# Altium schematic symbol library GPS_Traking_V1_1.SCHLIB: 48 symbols
Pins are listed as number, name and electrical type; pins without a type are passive.

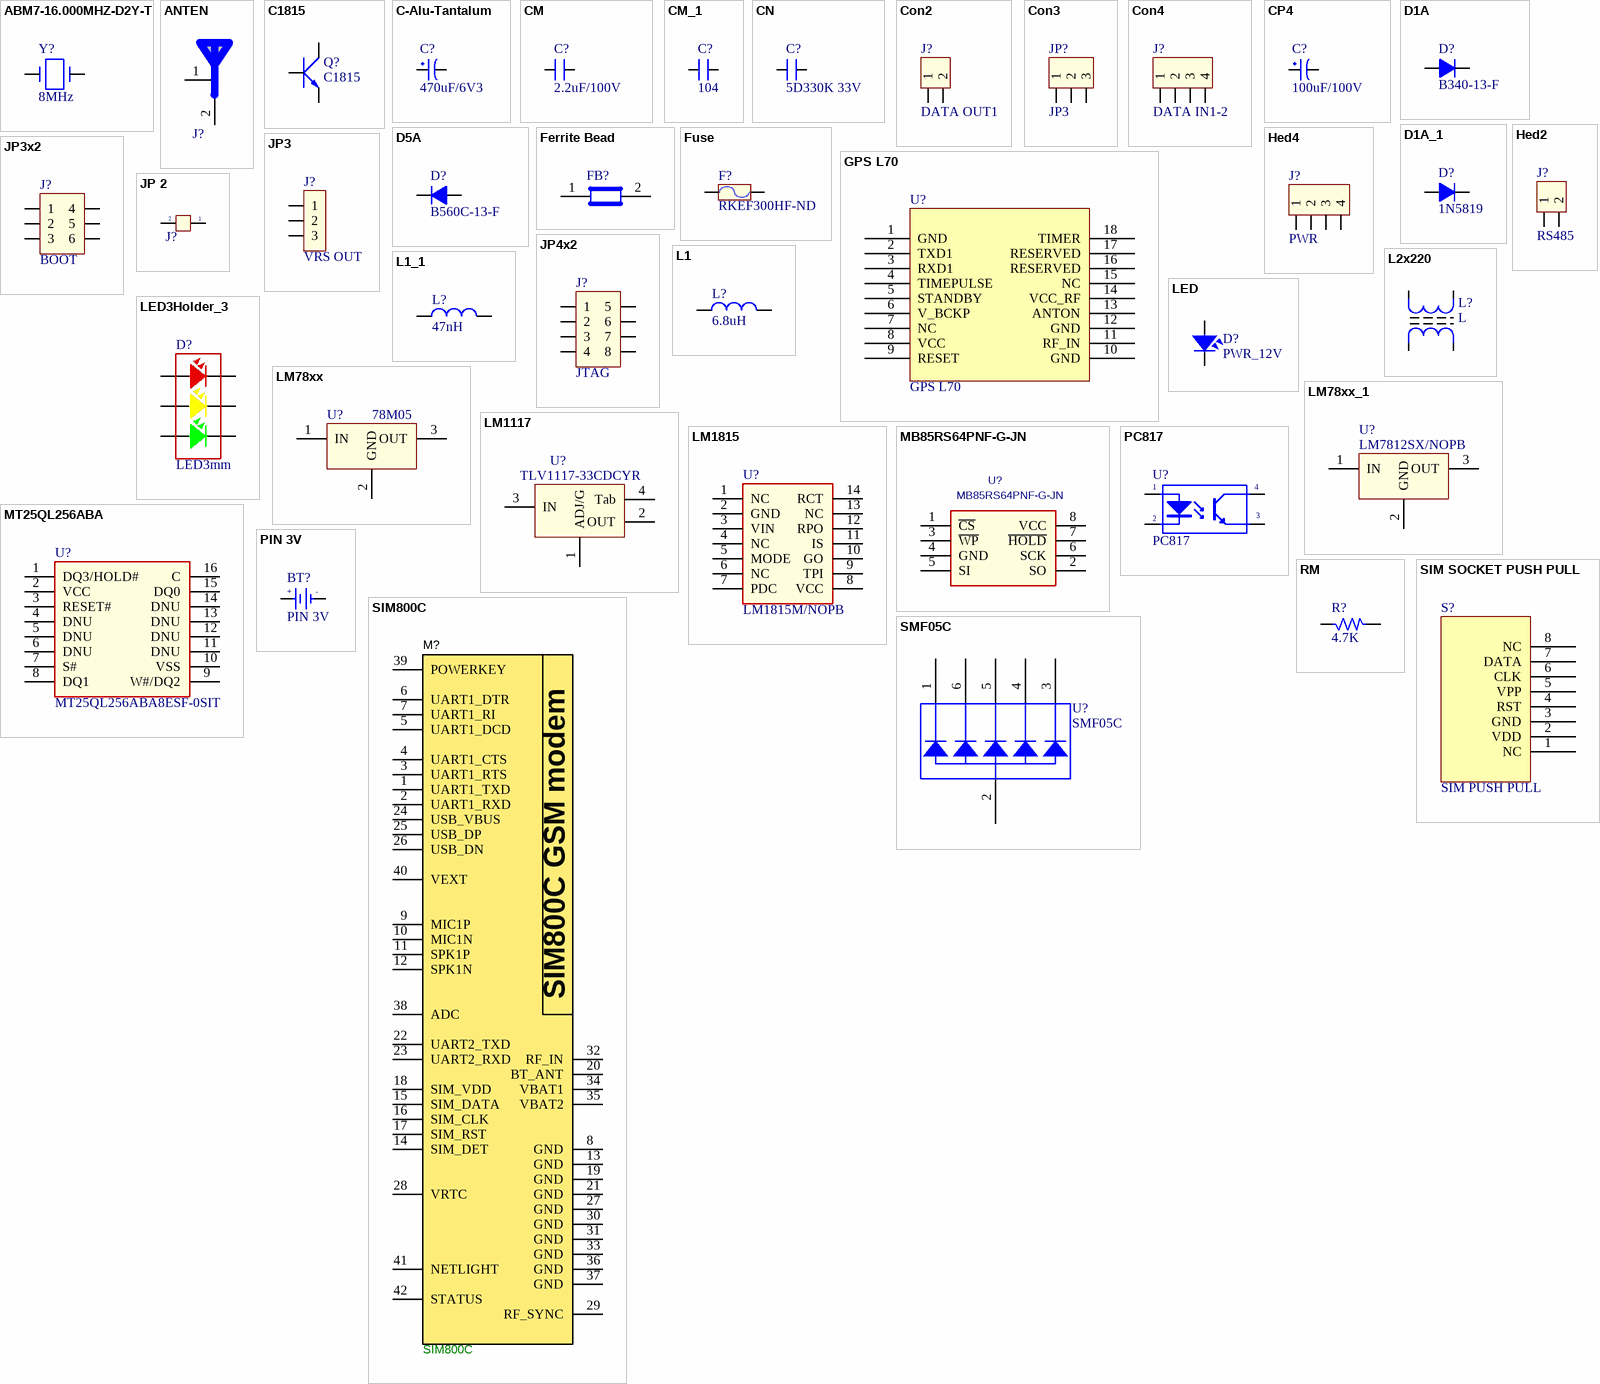
[diagram p0: symbols ABM7-16.000MHZ-D2Y-T to SMF05C]

## ABM7-16.000MHZ-D2Y-T
designator Y?, comment 8MHz
CRYSTAL 16MHZ 18PF SMD; Manufacturer: Abracon LLC; Manufacturer Part Number: ABM7-16.000MHZ-D2Y-T; Frequency Stability: ±30ppm; Frequency Tolerance: ±20ppm; ESR (Equivalent Series Resistance): 50 Ohm; Operating Mode: Fundamental; .Creator: MM; .Checked PCB: RF; Supplier 1: Digi-Key; RoHS: RoHS Compliant; Category: Crystals and Oscillators; Stock 1: 5861; Pricing 1: 1=0.96, 10=0.847, 50=0.791, 100=0.7, 500=0.6615 (USD); Packaging: Cut Tape (CT); Type: MHz Crystal; Frequency: 16MHz; Load Capacitance: 18pF; Operating Temperature: -40°C ~ 85°C; Ratings: -; Mounting Type: Surface Mount; Package / Case: 2-SMD; Size / Dimension: 0.236" L x 0.138" W (6.00mm x 3.50mm); Height: 0.055" (1.40mm); ComponentLink1URL: http://www.abracon.com/Resonators/abm7.pdf; ComponentLink1Description: http://www.abracon.com/Resonators/abm7.pdf; Supplier Part Number 1: 535-9840-1-ND; .Checked SCH: RF
footprint ABM7_v1_1_BIG
pins: 1, 2

## ANTEN
designator J?, comment GPS  (value not drawn)
footprint Antenna-IPEX (Connector; RF Coaxial, MCB SM; 4 Position; Vertical, Body 3.1x3.0mm (LxW))
footprint Antenna-MCX5.08-H5 (Connector; RF Coaxial, MCX, Thru-Hole; 5 Position; Right Angle)
footprint Antenna-MCX5.08-V5 (Connector; RF Coaxial, MCX, Thru-Hole; 5 Position; Vertical)
pins: 1 GND, 2 GND

## C1815
designator Q?
NPN 600mW, ECB; Value: C1815
footprint QTO-92 (TO-92)
footprint SOT23B (SOT 23B)
pins: 1 E, 2 C, 3 B

## C-Alu-Tantalum
designator C?, comment 470uF/6V3
Cap Aluminum; Value: 10uF/50V; Description 1: 10 => 220uF/6,3V/10V - 10uF => 100uF/16V; Description 2: 0,1uF => 33uF/50V - 10uF => 22uF/63V; Description 3: 0,47uF => 10uF/100V
footprint C_Alu_6.3x7.7 (Cap Aluminum 100uF_35V)
footprint C_Alu_8x10 (Cap Aluminum 330uF_16V)
footprint C_Alu_10x10 (Cap Aluminum 330uF/35V)
footprint C_7343_40 (Cap Tantulum)
pins: 1, 2
1 alternate drawing of the same symbol

## CM
designator C?, comment 2.2uF/100V
CAP CER 2.2UF 100V X7R 1210  445-4498-2-ND; Value: 103
footprint SM-1206 (Compoment SMD 120x60mil)
footprint SMD-2010 (Chip Capacitor, 2-Leads)
footprint SM-1210 (Chip Capacitor, 2-Leads, Body 3.20x2.50mm)
footprint C0805 (Compoment SMD 80x50mil)
footprint C2220
footprint C0603
footprint C0805 SMT (Compoment SMD 80x50mil)
footprint C0603 SMT
pins: 1, 2

## CM_1
designator C?, comment 104
Cap SMD; Value: 103
footprint SM-1206 (Compoment SMD 120x60mil)
footprint SMD-2010 (Chip Capacitor, 2-Leads)
footprint SM-1210 (Chip Capacitor, 2-Leads, Body 3.20x2.50mm)
footprint C0805 SMT
footprint C0603 SMT
pins: 1, 2

## CN
designator C?, comment 5D330K 33V
Value: 0,1uF/300V; Designed by: VanDungEvn
footprint CN (Tu loc 220)
footprint CN_TVE10621 (TVE10621)
footprint CN_105K630 (Tu keo)
footprint CN5 (CN5 500mil)
footprint CN6 (CN6 600mil)
footprint CN7 (CN7 700mil)
footprint CN4 (Cap np W 0.4)
footprint CN3 (Cap np W 0.3)
footprint CN2.5 (Tu pin to pin 250mil)
footprint CN2
footprint CN1.5
footprint CN1
pins: 1, 2

## Con2
designator J?, comment DATA OUT1
Connector 2; Value: Connector 2
footprint CON_2.54mm_2 (CON2)
pins: 1, 2

## Con3
designator JP?, comment JP3
Connector 3; Value: Connector 3
footprint CON_2.54mm_3 (CON 3)
pins: 1, 2, 3

## Con4
designator J?, comment DATA IN1-2
Connector 4; Value: Connector 4
footprint CON_2.54mm_4 (CON4)
pins: 1, 2, 3, 4

## CP4
designator C?, comment 100uF/100V
Cap 1000uF/16V - 220uF/50V; Description 5: 4,7uF>10uF/250V_3,3uF>10uF/400V - 2,2uF>4,7uF/450V; Description 1: 2200uF-3300uF/6,3V - 1000uF-2200uF/10V; Description 2: 1000uF/16V - 470uF => 1000uF/25V - 100uF/100V; Description 3: 330uF>470uF/35V_220uF>470uF/50V_10uF>22uF/250V; Description 4: 220uF => 330uF/63V - 10uF =>33uF/160 - 200V; Value: 1000uF/16V
footprint CP1.5/3.4 (Tu hoa 220->470uF,16V, 470uF/16V,25V)
pins: 1, 2

## D1A
designator D?, comment B340-13-F
DIODE SCHOTTKY 40V 3A SMC; Value: 1N4007
footprint D1A (Diode 1A, W 100mil, L 350mil)
footprint D2A (Diode 2A, W 150mil, L 450mil)
footprint DO-214AB SMA (Diode SS34, 1N4007-M7)
footprint DO_35 (Diode 1A, 7mm)
footprint DO-4148 SMD (1N4148 SMD)
pins: 1 A, 2 K

## D1A_1
designator D?, comment 1N5819
Diode 1A; Value: 1N4007
footprint D1A (Diode 1A, W 100mil, L 350mil)
footprint D2A (Diode 2A, W 150mil, L 450mil)
footprint DO-214AB SMA (Diode SS34, 1N4007-M7)
footprint DO_35 (Diode 1A, 7mm)
footprint DO-4148 SMD (1N4148 SMD)
footprint SOD123 (1N5819 SOD123)
pins: 1 A, 2 K

## D5A
designator D?, comment B560C-13-F
DIODE SCHOTTKY 60V 5A SMC; Value: 1N5408
footprint D5A (Diode 5A, W 200mil, L 550mil)
footprint D5AN (Diode 5A, W 200mil, L 250mil)
footprint DO-214AB SMC (Diode 5A, SS54)
pins: 1 A, 2 K

## Ferrite Bead
designator FB?, comment BLM21PG600SN1D  (value not drawn)
Ferrite Bead
footprint R0805
pins: 1, 2

## Fuse
designator F?, comment RKEF300HF-ND
PTC RESET FUSE 60V 3A RADIAL; Designed by: VanDungEvn; Value: Fuse
footprint Fuse (De Fuse)
footprint FUSE1 (De Fuse Box)
footprint FUSE2 (Fuse)
pins: 1, 2

## GPS L70
designator U?
footprint GPS L70
pins: 1 GND, 2 TXD1, 3 RXD1, 4 TIMEPULSE, 5 STANDBY, 6 V_BCKP, 7 NC, 8 VCC, 9 RESET, 10 GND, 11 RF_IN, 12 GND, 13 ANTON, 14 VCC_RF, 15 NC, 16 RESERVED, 17 RESERVED, 18 TIMER

## Hed2
designator J?, comment RS485
Header 2 (Green); Value: Header 2
footprint HED2 (Header 2, 2 pin, hight 300mil, Pin to Pin 200, Colour Green)
footprint HED2T (Header 2, 2 pin, hight 300mil, Pin to Pin 200, Colour Green)
footprint HED2B (Header 2, 2 pin, hight 300mil, Pin to Pin 150, Colour White)
footprint HED2A (Header 2: 300V-20A, 2 pin, hight 300mil, Pin to Pin 400, Colour Green)
footprint HED2_7.62
footprint HED2V_5.08
footprint Hed2V_3.96
footprint HED_5.08mm_2L (Header 2, 2 pin, hight 300mil, Pin to Pin 200, Colour Green)
footprint HED_3.81mm_2 (Header 2, 2 pin, Pin to Pin 150)
footprint HED_5.08mm_2T (Header 2, 2 pin, hight 300mil, Pin to Pin 200, Colour Green)
pins: 1, 2

## Hed4
designator J?, comment PWR
Header 4 (Green); Value: Header 4
footprint HED4 (Header 4, 4 pin, hight 300mil, Pin to Pin 200, Colour Green)
footprint HED4T (Header 4, 4 pin, hight 300mil, Pin to Pin 200, Colour Green)
footprint HED4B (Header 4, 4 pin, hight 300mil, Pin to Pin 150, Colour White)
footprint Hed4V_3.96
footprint HED_3.81mm_4 (Header 4, 4 pin, Pin to Pin 150)
pins: 1, 2, 3, 4

## JP3
designator J?, comment VRS OUT
Jumper 3; Value: J3
footprint JP3 (Jumper 3)
footprint JP3H
pins: 1, 2, 3

## JP3x2
designator J?, comment BOOT
Connector 3x2; Value: Connector 3x2
footprint JP3x2 (Connector 3x2)
pins: 1, 2, 3, 4, 5, 6

## JP4x2
designator J?, comment JTAG
Connector 4x2; Value: Connector 4x2
footprint JP4x2 (Connector 4x2)
pins: 1, 2, 3, 4, 5, 6, 7, 8

## JP 2
designator J?, comment watdog  (value not drawn)
Jumper 2; Value: JP 2
footprint JP2
footprint jp2h
pins: 1, 2

## L1
designator L?, comment 6.8uH
FIXED IND 6.2UH 5.7A 22.4 MOHM; Value: 150 mH
footprint L/0.4 (Inductor , 2 Pin, L 350mil, W 150 mil)
footprint L01 (Inductor)
footprint L01 SMD (Chip Inductor SMD Vishay)
footprint L01 SMD 12*12*6 (Chip Inductor, 12*12*6)
pins: 1, 2

## L1_1
designator L?, comment 47nH
Inductor; Value: 150 mH
footprint L/0.4 (Inductor , 2 Pin, L 350mil, W 150 mil)
footprint L01 (Inductor)
footprint C0805 (Compoment SMD 80x50mil)
pins: 1, 2

## L2x220
designator L?, comment L
Inductor; Value: Loc 220; Designed by: VanDungEvn
footprint L2x220
footprint L2 UF9.8 (Loc UF 9.8 10mH)
pins: 1, 2, 3, 4

## LED
designator D?, comment PWR_12V
LED Single colour Green and Red; Value: LED 3 ly Single Colour
footprint LED-V (LED 2 PIN, Rectang Only colour)
footprint LED-O (LED 2 PIN,  Ovan Only colour, pin to pin 110mil)
footprint Led_0603_Green
footprint Led_0603_RED
footprint Led_0603_Yellow
footprint Led_0805_GREEN
footprint Led_0805_YELLOW
footprint LED_5 GRe (LED 2 PIN, 5 ly , Only colour,pin to pin 100mil)
footprint LED_5 RED (LED 2 PIN, 5 ly , Only colour,pin to pin 100mil)
footprint LED_5 Yellow (LED 2 PIN, 5 ly , Only colour,pin to pin 100mil)
footprint LED_3 GREEN (LED 2 PIN, 3ly Only colour)
footprint LED_3 RED (LED 2 PIN, 3ly Only colour)
footprint LED_3 YELLOW (LED 2 PIN, 3ly Only colour)
footprint LED_5 RED Oval (LED 2 PIN, 5 ly , Only colour,pin to pin 100mil)
footprint LED_5 GREEN SMD (LED 2 PIN, 5mm, SMD)
footprint LED_5 RED SMD (LED 2 PIN, 5mm, SMD)
footprint LED_5 YELLOW SMD (LED 2 PIN, 5mm, SMD)
footprint LED_1W (1W Led power)
pins: 1, 2

## LED3Holder_3
designator D?, comment LED3mm
LED 3 holder RGB 3mm; Value: LED 3 ly Single Colour
footprint LED 3 holder 3mm
pins: 1, 2, 3, 4, 5, 6

## LM78xx
designator U?, comment 78M05
On ap +, from + 5 to + 24VDC; Value: LM7805
footprint QTO-220 (TO-220 - 1-2-3)
footprint QTO-220H3 (TO-220 1-2-3)
footprint QTO-220NH (TO-220 - 1-2-3)
footprint QTO-220N (TO-220 - 1-2-3)
footprint TO252-3L (D-PAK, 4-Leads, Body 6.1x6.5mm, Pitch 2.28mm, Lead Span 9.7mm, IPC High Density)
pins: 1 IN, 2 GND, 3 OUT

## LM78xx_1
designator U?, comment LM7812SX/NOPB
Value: LM7805
footprint QTO-220 (TO-220 - 1-2-3)
footprint QTO-220H3 (TO-220 1-2-3)
footprint QTO-220NH (TO-220 - 1-2-3)
footprint QTO-220N (TO-220 - 1-2-3)
footprint TO252-3L (D-PAK, 4-Leads, Body 6.1x6.5mm, Pitch 2.28mm, Lead Span 9.7mm, IPC High Density)
footprint TO-263-4 (LM7812, LM7805)
pins: 1 IN, 2 GND, 3 OUT

## LM1117
designator U?, comment TLV1117-33CDCYR
3v3; Value: LM317
footprint SOT223-4N (SOT223, 4-Leads, Body 6.5x3.5mm, Pitch 2.3mm, Lead Span 7mm, IPC Medium Density)
pins: 1 ADJ/G, 2 OUT, 3 IN, 4 Tab

## LM1815
designator U?, comment LM1815M/NOPB
IC AMP ADAPTIV VAR SENSOR
footprint SOIC-D14 (SOIC 14 (D))
pins: 1 NC, 2 GND, 3 VIN, 4 NC, 5 MODE, 6 NC, 7 PDC, 8 VCC, 9 TPI, 10 GO, 11 IS, 12 RPO, 13 NC, 14 RCT

## MB85RS64PNF-G-JN
designator U?
FRAM 64KBIT 20MHZ 8SOP; Manufacturer_Part_Number: MB85RS64PNF-G-JNE1; C: Copyright (C) 2015 Accelerated Designs. All rights reserved; Vendor: Fujitsu Semiconductor; Built_By: EMA_UL_Team; Value: MB85RS64PNF-G-JN
footprint FPT-8P-M02
footprint FPT-8P-M02-M
footprint FPT-8P-M02-L
footprint SO-8 208 (8-SOIC (0.209", 5.30mm Width))
pins: 1 ~{CS}, 2 SO, 3 ~{WP}, 4 GND, 5 SI, 6 SCK, 7 ~{HOLD}, 8 VCC

## MT25QL256ABA
designator U?, comment MT25QL256ABA8ESF-0SIT
FLASH 256MBIT 133MHZ 16SOIC
footprint 16-SOP2 (16-SOP2 300mils)
pins: 1 DQ3/HOLD#, 2 VCC, 3 RESET#, 4 DNU, 5 DNU, 6 DNU, 7 S#, 8 DQ1, 9 W#/DQ2, 10 VSS, 11 DNU, 12 DNU, 13 DNU, 14 DNU, 15 DQ0, 16 C

## PC817
designator U?
Single Opto; Value: PC817
footprint DIP4/W0.3 (4 PIN, W 300mil, Pin to pin 100mil)
pins: 1 A "Anode", 2 K "Cathode", 3 E "Emitter", 4 C "Collector"

## PIN 3V
designator BT?
Battery 3VDC; Value: PIN 3V
footprint PIN3V (Socket PIN 3V)
footprint CR1220 socket (Pin 3V CR1220)
footprint PIN3V_mini (Socket PIN 3V)
pins: 1 +3V, 2 GND
text: +; -

## RM
designator R?, comment 4.7K
Resistor SMD; Value: 1K
footprint R0603
footprint R0805
footprint R2512
footprint R1206 (Compoment SMD 120x60mil)
footprint R0603 -SMT
footprint R0805 SMT
footprint R0402
pins: 1, 2

## SIM800C
designator M?
footprint SIM800C
pins: 1 UART1_TXD, 2 UART1_RXD, 3 UART1_RTS, 4 UART1_CTS, 5 UART1_DCD, 6 UART1_DTR, 7 UART1_RI, 8 GND, 9 MIC1P, 10 MIC1N, 11 SPK1P, 12 SPK1N, 13 GND, 14 SIM_DET, 15 SIM_DATA, 16 SIM_CLK, 17 SIM_RST, 18 SIM_VDD, 19 GND, 20 BT_ANT, 21 GND, 22 UART2_TXD, 23 UART2_RXD, 24 USB_VBUS, 25 USB_DP, 26 USB_DN, 27 GND, 28 VRTC, 29 RF_SYNC, 30 GND, 31 GND, 32 RF_IN, 33 GND, 34 VBAT1, 35 VBAT2, 36 GND, 37 GND, 38 ADC, 39 POWERKEY, 40 VEXT, 41 NETLIGHT, 42 STATUS
text: SIM800C GSM modem

## SIM SOCKET PUSH PULL
designator S?, comment SIM PUSH PULL
footprint Sim Push Push
pins: 1 NC, 2 VDD, 3 GND, 4 RST, 5 VPP, 6 CLK, 7 DATA, 8 NC

## SMF05C
designator U?
ESD Protection
footprint SOT_363_6
pins: 1 K1, 2 A (power), 3 K2, 4 K3, 5 K4 (power), 6 K5

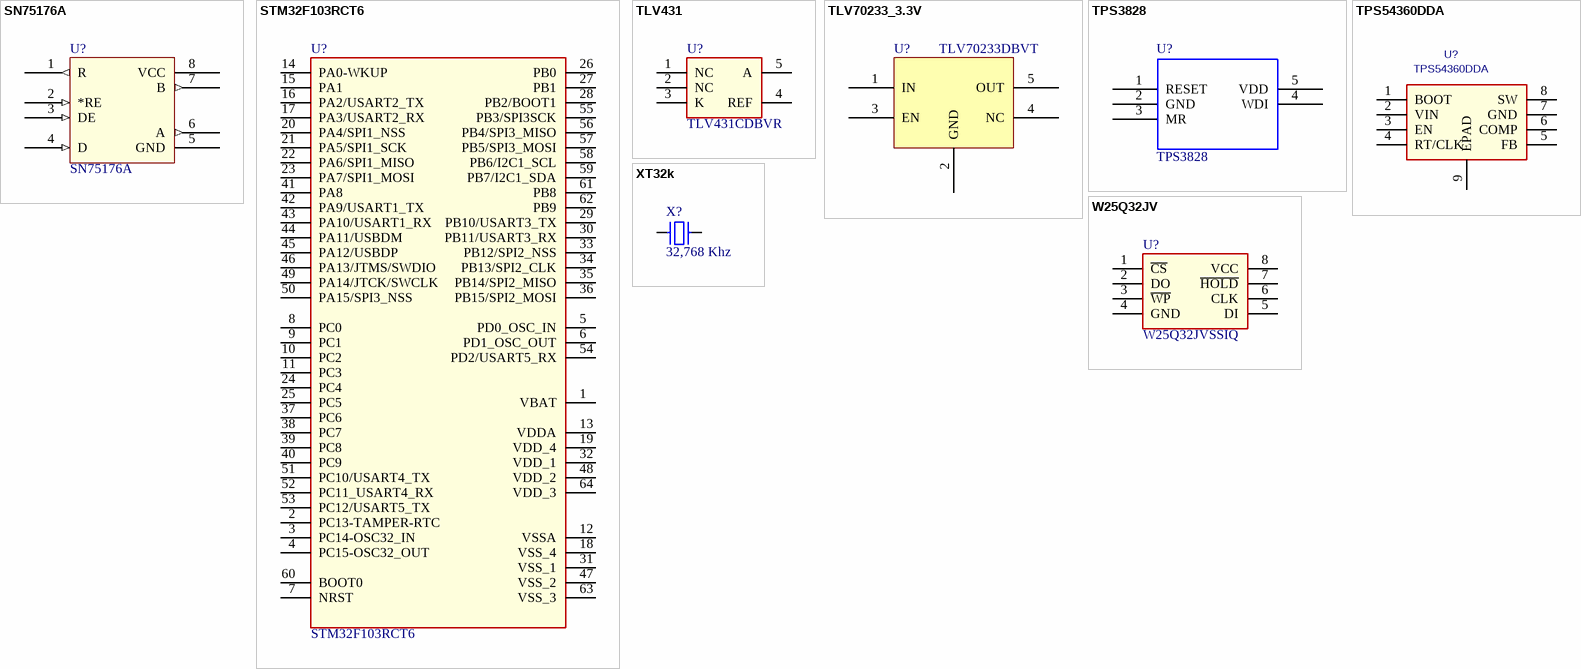
[diagram p1: symbols SN75176A to XT32k]

## SN75176A
designator U?
footprint SN75176A
pins: 1 R (out), 2 *RE (in), 3 DE (in), 4 D (in), 5 GND (power), 6 A (out), 7 B (out), 8 VCC (power)

## STM32F103RCT6
designator U?
MCU 32BIT 256KB FLASH 64LQFP
footprint LQFP-64-M
footprint LQFP-64
pins: 1 VBAT, 2 PC13-TAMPER-RTC, 3 PC14-OSC32_IN, 4 PC15-OSC32_OUT, 5 PD0_OSC_IN, 6 PD1_OSC_OUT, 7 NRST, 8 PC0, 9 PC1, 10 PC2, 11 PC3, 12 VSSA, 13 VDDA, 14 PA0-WKUP, 15 PA1, 16 PA2/USART2_TX, 17 PA3/USART2_RX, 18 VSS_4, 19 VDD_4, 20 PA4/SPI1_NSS, 21 PA5/SPI1_SCK, 22 PA6/SPI1_MISO, 23 PA7/SPI1_MOSI, 24 PC4, 25 PC5, 26 PB0, 27 PB1, 28 PB2/BOOT1, 29 PB10/USART3_TX, 30 PB11/USART3_RX, 31 VSS_1, 32 VDD_1, 33 PB12/SPI2_NSS, 34 PB13/SPI2_CLK, 35 PB14/SPI2_MISO, 36 PB15/SPI2_MOSI, 37 PC6, 38 PC7, 39 PC8, 40 PC9, 41 PA8, 42 PA9/USART1_TX, 43 PA10/USART1_RX, 44 PA11/USBDM, 45 PA12/USBDP, 46 PA13/JTMS/SWDIO, 47 VSS_2, 48 VDD_2, 49 PA14/JTCK/SWCLK, 50 PA15/SPI3_NSS, 51 PC10/USART4_TX, 52 PC11_USART4_RX, 53 PC12/USART5_TX, 54 PD2/USART5_RX, 55 PB3/SPI3SCK, 56 PB4/SPI3_MISO, 57 PB5/SPI3_MOSI, 58 PB6/I2C1_SCL, 59 PB7/I2C1_SDA, 60 BOOT0, 61 PB8, 62 PB9, 63 VSS_3, 64 VDD_3

## TLV431
designator U?, comment TLV431CDBVR
VREF SHUNT ADJ SOT23-5
footprint SOT23-5 DBV
pins: 1 NC, 2 NC, 3 K, 4 REF, 5 A

## TLV70233_3.3V
designator U?, comment TLV70233DBVT
footprint TLV70233_3.3V
pins: 1 IN, 2 GND (power), 3 EN, 4 NC, 5 OUT

## TPS3828
designator U?
footprint TPS3828
pins: 1 RESET, 2 GND (power), 3 MR, 4 WDI, 5 VDD (power)

## TPS54360DDA
designator U?
REG BUCK SPLIT RAIL 8SOPWRPAD; C: Copyright (C) 2015 Accelerated Designs. All rights reserved; Vendor: TEXAS INSTRUMENTS; Built_By: EMA_UL_Team; Value: TPS54360DDA; Manufacturer_Part_Number: TPS54360DDA
footprint DDA8_3P1X2P4_TPS54360DDA(Primary)
footprint DDA8_3P1X2P4-M
footprint DDA8_3P1X2P4-L
pins: 1 BOOT, 2 VIN, 3 EN, 4 RT/CLK, 5 FB, 6 COMP, 7 GND, 8 SW, 9 EPAD

## W25Q32JV
designator U?, comment W25Q32JVSSIQ
FLASH 32MBIT 133MHZ 8SOP
footprint SO-8 208 (8-SOIC (0.209", 5.30mm Width))
pins: 1 ~{CS}, 2 DO, 3 ~{WP}, 4 GND, 5 DI, 6 CLK, 7 ~{HOLD}, 8 VCC

## XT32k
designator X?, comment 32,768 Khz
Crystal 32,768kHz for timer real; Value: 32,768khz
footprint XT32kn (Crystal for 32,768kHz, 2pin)
pins: 1, 2